# Altium integrated library Philips Logic Switch.IntLib: 4 symbols
Pins are listed as number, name and electrical type; pins without a type are passive.

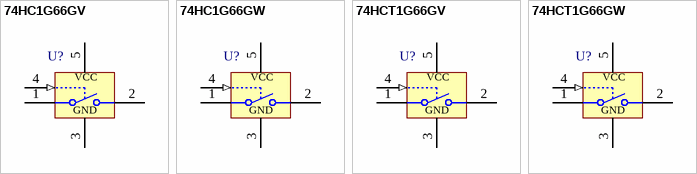
[diagram p0: symbols 74HC1G66GV to 74HCT1G66GW]

## 74HC1G66GV
designator U?
5V Single Bilateral Switch; Published: 6-Jun-2005; DatasheetVersion: May-2002; PackageVersion: Apr-2002; PackageReference: SOT753; Publisher: Altium Limited; PackageDescription: SOT-23/SC-74A; 5 Leads; Body 3.1 x 3 mm, inc. leads (LxW max); Code_JEITA: SC-74A; ComponentLink1Description: Manufacturer Link; ComponentLink1URL: http://www.semiconductors.philips.com/pip/74HCT1G66GW.html; ComponentLink2Description: Datasheet; ComponentLink2URL: http://www.semiconductors.philips.com/acrobat/datasheets/74HC_HCT1G66_3.pdf
footprint SOT753 (SOT-23/SC-74A; 5 Leads; Body 3.1 x 3 mm, inc. leads (LxW max))
pins: 1 Y "Independent Input/Output Y", 2 Z "Independent Input/Output Z", 3 GND (power) "Ground (O V)", 4 E (in) "Enable Input E (Active High)", 5 VCC (power) "Supply Voltage"

## 74HC1G66GW
designator U?
5V Single Bilateral Switch; Published: 6-Jun-2005; DatasheetVersion: May-2002; PackageVersion: Feb-1997; PackageReference: SOT353; Publisher: Altium Limited; PackageDescription: SOT-353/SC-88A; 5 Leads; Body 2.2 x 2.2 mm, inc. leads (LxW max); Code_JEITA: SC-88A; ComponentLink1Description: Manufacturer Link; ComponentLink1URL: http://www.semiconductors.philips.com/pip/74HCT1G66GW.html; ComponentLink2Description: Datasheet; ComponentLink2URL: http://www.semiconductors.philips.com/acrobat/datasheets/74HC_HCT1G66_3.pdf
footprint SOT353 (SOT-353/SC-88A; 5 Leads; Body 2.2 x 2.2 mm, inc. leads (LxW max))
pins: 1 Y "Independent Input/Output Y", 2 Z "Independent Input/Output Z", 3 GND (power) "Ground (O V)", 4 E (in) "Enable Input E (Active High)", 5 VCC (power) "Supply Voltage"

## 74HCT1G66GV
designator U?
5V Single Bilateral Switch, TTL Enabled; Published: 6-Jun-2005; DatasheetVersion: May-2002; PackageVersion: Apr-2002; PackageReference: SOT753; Publisher: Altium Limited; PackageDescription: SOT-23/SC-74A; 5 Leads; Body 3.1 x 3 mm, inc. leads (LxW max); Code_JEITA: SC-74A; ComponentLink1Description: Manufacturer Link; ComponentLink1URL: http://www.semiconductors.philips.com/pip/74HCT1G66GW.html; ComponentLink2Description: Datasheet; ComponentLink2URL: http://www.semiconductors.philips.com/acrobat/datasheets/74HC_HCT1G66_3.pdf
footprint SOT753 (SOT-23/SC-74A; 5 Leads; Body 3.1 x 3 mm, inc. leads (LxW max))
pins: 1 Y "Independent Input/Output Y", 2 Z "Independent Input/Output Z", 3 GND (power) "Ground (O V)", 4 E (in) "Enable Input E (Active High)", 5 VCC (power) "Supply Voltage"

## 74HCT1G66GW
designator U?
5V Single Bilateral Switch, TTL Enabled; Published: 6-Jun-2005; DatasheetVersion: May-2002; PackageVersion: Feb-1997; PackageReference: SOT353; Publisher: Altium Limited; PackageDescription: SOT-353/SC-88A; 5 Leads; Body 2.2 x 2.2 mm, inc. leads (LxW max); Code_JEITA: SC-88A; ComponentLink1Description: Manufacturer Link; ComponentLink1URL: http://www.semiconductors.philips.com/pip/74HCT1G66GW.html; ComponentLink2Description: Datasheet; ComponentLink2URL: http://www.semiconductors.philips.com/acrobat/datasheets/74HC_HCT1G66_3.pdf
footprint SOT353 (SOT-353/SC-88A; 5 Leads; Body 2.2 x 2.2 mm, inc. leads (LxW max))
pins: 1 Y "Independent Input/Output Y", 2 Z "Independent Input/Output Z", 3 GND (power) "Ground (O V)", 4 E (in) "Enable Input E (Active High)", 5 VCC (power) "Supply Voltage"